# EAGLE library part FT232BL (library jasons_stuff)
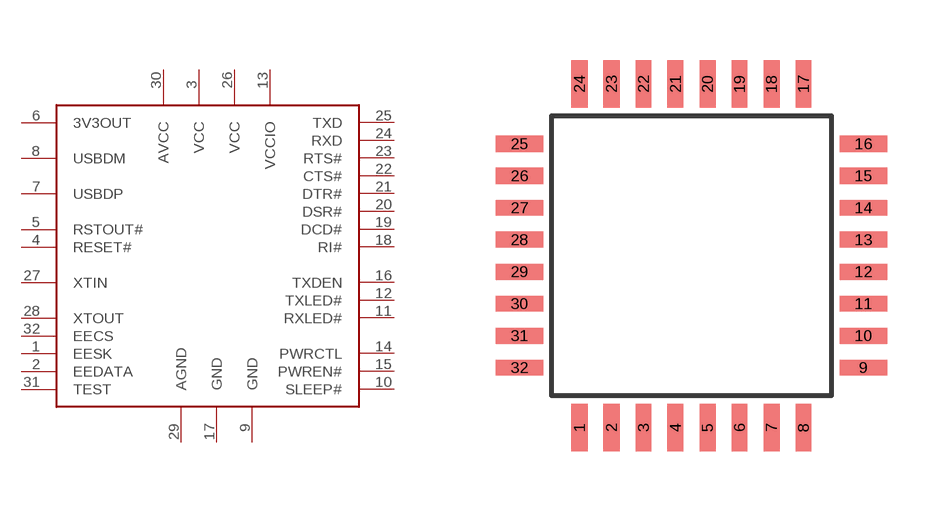
[diagram p9: symbol with the pads of LQFP32; footprint LQFP32]

Designator prefix -

## FT232BL  [LQFP32]
1  EESK
2  EEDATA
3  VCC
4  RESET#
5  RSTOUT#
6  3V3OUT
7  USBDP
8  USBDM
9  GND
10  SLEEP#
11  RXLED#
12  TXLED#
13  VCCIO
14  PWRCTL
15  PWREN#
16  TXDEN
17  GND
18  RI#
19  DCD#
20  DSR#
21  DTR#
22  CTS#
23  RTS#
24  RXD
25  TXD
26  VCC
27  XTIN
28  XTOUT
29  AGND
30  AVCC
31  TEST
32  EECS

## Footprint LQFP32 (pad centres in mm)
LQFP-32 package 7x7 mm case, 0.8 mm lead pitch
smd 0.4 x 1.2: 1 -2.8,-4.3; 2 -2,-4.3; 3 -1.2,-4.3; 4 -0.4,-4.3; 5 0.4,-4.3; 6 1.2,-4.3; 7 2,-4.3; 8 2.8,-4.3; 17 2.8,4.3; 18 2,4.3; 19 1.2,4.3; 20 0.4,4.3; 21 -0.4,4.3; 22 -1.2,4.3; 23 -2,4.3; 24 -2.8,4.3
smd 1.2 x 0.4: 9 4.3,-2.8; 10 4.3,-2; 11 4.3,-1.2; 12 4.3,-0.4; 13 4.3,0.4; 14 4.3,1.2; 15 4.3,2; 16 4.3,2.8; 25 -4.3,2.8; 26 -4.3,2; 27 -4.3,1.2; 28 -4.3,0.4; 29 -4.3,-0.4; 30 -4.3,-1.2; 31 -4.3,-2; 32 -4.3,-2.8